# Altium schematic symbol library 2N5550.Schlib: 1 symbol
Pins are listed as number, name and electrical type; pins without a type are passive.

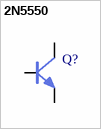
[diagram p0: symbol 2N5550]

## 2N5550
designator Q?  (value not drawn)
pins: 1 E, 2 B, 3 C